# Altium integrated library Discrete Semiconductors.IntLib: 47 symbols
Pins are listed as number, name and electrical type; pins without a type are passive.

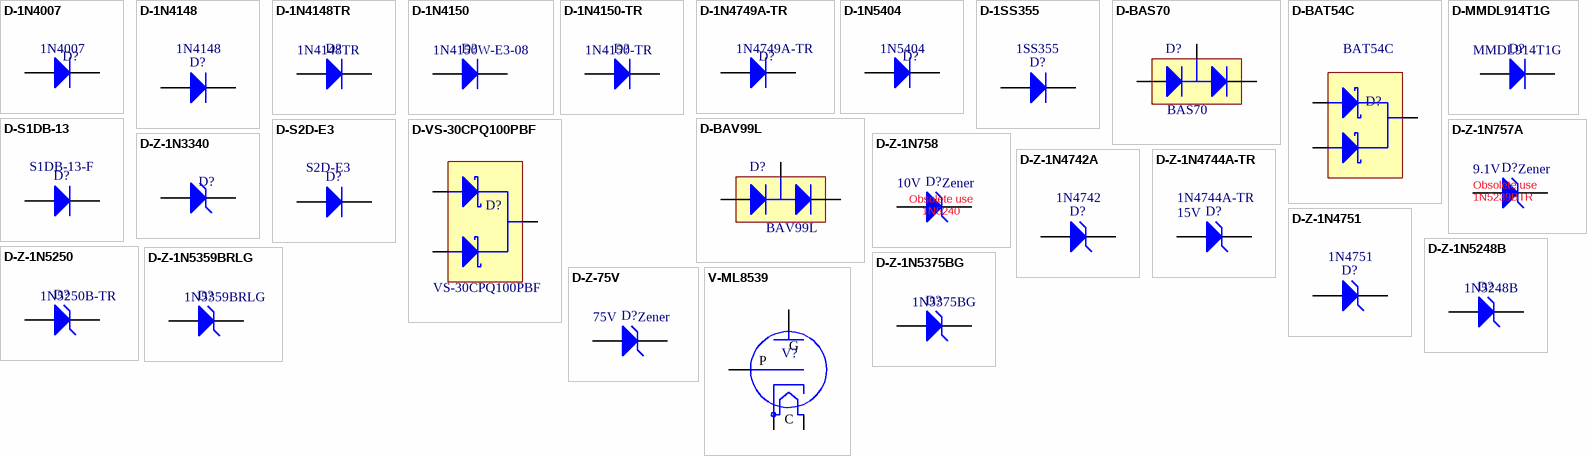
[diagram p0: symbols D-1N4007 to V-ML8539]

## D-1N4007
designator D?, comment 1N4007
Diode, Rectifier, General Purpose, 1000V, 3A, DO-201/DO-27; Manufacturer: Various; Forward Voltage: 0.8V @ 1A; Forward Current: 1.0A; Reverse Current: 10uA at 25C; PackageDescription: 5.2 x 2.7 mm, thru-hole; Reverse DC Voltage: 1000V; Package Reference: DO-41, DO-204AL; Supplier 1: Digi-Key; Supplier Part Number 1: 1N4007DICT-ND; Supplier 2: Mouser; Supplier Part Number 2: 512-1N4007; Supplier 3: Newark; Supplier Part Number 3: 05R5988; Supplier 4: Digi-Key; Supplier Part Number 4: 1N4007FSCT-ND; ComponentLink1Description: Datasheet; ComponentLink1URL: \\canopus\EDA\Datasheets\Discrete Semiconductors; Type: Rectifier; Part Number: 1N4007
footprint DO-41 (Diode, Axial; Body 5.2 x 2.7 mm (LxDia. max), Lead Dia. 0.86 mm (max))
3D model DO-41 (PCB3D Model)
simulation model D1N4007 (Model Generated by MODPEX)
pins: A, K

## D-1N4148
designator D?, comment Part Number: 1N4148  (hidden comment: 1N4148, 75V switching diode)
Switching Diode, 75V, 0.15A, SOD-123 package; Manufacturer: Various; Reverse Current Leakage: 5uA@75V; Forward Voltage: 1V @ 150mA; PackageDescription: Small Outline Diode (3.68 × 1.17 × 1.60 mm); Reverse DC Voltage: 75V; Supplier 1: Mouser; Supplier 2: Digi-Key; Supplier Part Number 1: 78-1N4148W-E3-18; Supplier Part Number 2: 1N4148WTPMSCT-ND; Package Reference: SOD-123; ComponentLink1Description: Datasheet; ComponentLink1URL: \\canopus\EDA\Datasheets\Discrete Semiconductors; Type: Switching
footprint SOD123 (Small Outline Diode (3.68 × 1.17 × 1.60 mm)); pin to pad 1>A 2>K
simulation model 1N4148 (DIODE)
3D model SOD-323 (PCB3D Model)
pins: 1 A, 2 K

## D-1N4148TR
designator D?, comment Part Number: 1N4148TR  (hidden comment: 1N4148, 75V switching diode)
Diode, Switching 100V, 0.2A, DO-35 package; Manufacturer: Various; Reverse Current Leakage: 5uA@75V; Forward Voltage: 1V @ 10mA; PackageDescription: Small Outline Diode (4.10 × 1.91mm); Reverse DC Voltage: 100V; Supplier 1: Newark; Supplier Part Number 1: 44K0365; Supplier 2: Mouser; Supplier Part Number 2: 512-1N4148TR; Supplier 3: Digi-Key; Supplier Part Number 3: 1N4148DICT-ND; Package Reference: DO-35; ComponentLink1Description: Datasheet; ComponentLink1URL: \\canopus\EDA\Datasheets\Discrete Semiconductors; Type: Switching
footprint DO-35 (Diode, DO-35, Thru-Hole; 2 Leads; 0.4 in Pin Spacing); pin to pad 1>A 2>K
3D model DO-35 (PCB3D Model)
simulation model 1N4148 (Model Description)
pins: 1 A, 2 K

## D-1N4150
designator D?, comment 1N4150W-E3-08
Diode, Switching, 50V 0.2A, SOD-123 package; Manufacturer: Various; Reverse Current Leakage: 100nA @ 50V; Forward Voltage: 1V @ 200mA; PackageDescription: Small Outline Diode (3.68 × 1.17 × 1.60 mm); Supplier 1: Mouser; Supplier 2: Digi-Key; Supplier 3: Newark; Supplier Part Number 1: 78-1N4150W-E3-08; Supplier Part Number 2: 1N4150W-E3-08CT-ND; Supplier Part Number 3: 51T5044; Reverse DC Voltage: 50V; Package Reference: SOD-123; ComponentLink1Description: Datasheet; ComponentLink1URL: \\canopus\EDA\Datasheets\Discrete Semiconductors; Type: Switching; Part Number: 1N4150W-E3-08
footprint SOD123 (Small Outline Diode (3.68 × 1.17 × 1.60 mm)); pin to pad 1>A 2>K
simulation model 1N4150 (DIODE)
3D model SOD-123 (PCB3D Model)
pins: 1 A, 2 K

## D-1N4150-TR
designator D?, comment 1N4150-TR
Diode, Switching, 50V 0.2A, SOD-123 package; Manufacturer: Various; Reverse Current Leakage: 100nA @ 50V; Forward Current: 200mA (surge 500mA); Forward Voltage: 1V @ 200mA; PackageDescription: Small Outline Diode (3.68 × 1.17 × 1.60 mm); Reverse DC Voltage: 50V; Supplier 1: Newark; Supplier Part Number 1: 48F4703; Supplier 2: Mouser; Supplier Part Number 2: 78-1N4150; Package Reference: DO-35; ComponentLink1Description: Datasheet; ComponentLink1URL: \\canopus\EDA\Datasheets\Discrete Semiconductors; Type: Switching; Part Number: 1N4150-TR
simulation model 1N4150 (DIODE)
footprint DO-35 (Diode, DO-35, Thru-Hole; 2 Leads; 0.4 in Pin Spacing); pin to pad 1>A 2>K
3D model DO-35 (PCB3D Model)
pins: 1 A, 2 K

## D-1N4749A-TR
designator D?, comment 1N4749A-TR
Zener Diode, 24V, 1.3W, DO-41; Manufacturer: Fairchild Semiconductor; Forward Current: 1.0A; Reverse Current: 5uA @ 18.2V; PackageDescription: DO-204AL, DO-41, Axial; Package Reference: DO-41; Supplier 1: Digi-Key; Supplier Part Number 1: 1N4749AFSCT-ND; Supplier 2: Mouser; Supplier Part Number 2: 512-1N4749ATR; Supplier 3: Newark; Supplier Part Number 3: 33C2799; Value: 24V; ComponentLink1Description: Datasheet; ComponentLink1URL: \\canopus\EDA\Datasheets\Discrete Semiconductors; Type: Zener; Part Number: 1N4749A-TR
footprint DO-41 (Diode, Axial; Body 5.2 x 2.7 mm (LxDia. max), Lead Dia. 0.86 mm (max))
3D model DO-41 (PCB3D Model)
simulation model SIMetrix_DI_1N4749A (SYM=HZEN)
pins: A, K

## D-1N5404
designator D?, comment 1N5404
Diode, Rectifier, General Purpose, 400V, 3A, DO-201/DO-27; Manufacturer: Various; Forward Voltage: 1.0V @ 3A; Forward Current: 3.0A; Reverse Current: 5.0uA; PackageDescription: 9.5 x 5.3 mm, plastic, thru-hole; Reverse DC Voltage: 400V; Supplier 1: Newark; Supplier Part Number 1: 78K2520; Supplier 2: Digi-Key; Supplier 3: Mouser; Supplier Part Number 3: 621-1N5404; Package Reference: DO-27, DO-201AD; Supplier Part Number 2: 1N5404-TPCT-ND; ComponentLink1Description: Datasheet; ComponentLink1URL: \\canopus\EDA\Datasheets\Discrete Semiconductors; Type: Rectifier; Part Number: 1N5404
footprint DO-27 (Diode, DO-27, Thru-Hole; 2 Leads; 0.73 in Pin Spacing); pin to pad 1>A 2>K
simulation model DI_1N5404 (SRC=1N5404;DI_1N5404;Diodes;Si;  400V  3.00A  3.00us   Diodes Inc. Standard Rectifier)
3D model DO-27 (PCB3D Model)
pins: 1 A, 2 K

## D-1SS355
designator D?, comment 1SS355
Small Signal Diode, 80V, 0.1A; Manufacturer: ROHM Semiconductor; Reverse Current Leakage: 100nA @ 80V; Forward Voltage: 1.2V; PackageDescription: Small Outline Diode (1.7 × 1.25 × 0.95 mm); Supplier 1: Digi-Key; Supplier Part Number 1: 1SS355TE-17CT-ND; Supplier 2: Mouser; Supplier Part Number 2: 755-1SS355TE-17; Supplier 3: Newark; Supplier Part Number 3: 74M5722; Reverse DC Voltage: 80V; Package Reference: SOD-323; ComponentLink1Description: Datasheet; ComponentLink1URL: \\canopus\EDA\Datasheets\Discrete Semiconductors; Type: Small Signal; Part Number: 1SS355
footprint SOD323 (Small Outline Diode (1.7 × 1.25 × 0.95 mm)); pin to pad 1>A 2>K
3D model SOD-323 (PCB3D Model)
simulation model D1SS355 (D1SS355 D model)
pins: 1 A, 2 K

## D-BAS70
designator D?, comment Part Number: BAS70  (hidden comment: BAS70-04LT1G)
Diode Array, 70V, 215mA, SOT23 package; Manufacturer: On Semiconductor; Forward Voltage: 1.0V; Reverse Current Leakage: 10uA @ 70V; PackageDescription: 3-Pin SOT-23 Package 0.95 mm Pitch, 2.5 mm Lead Span; Reverse DC Voltage: 70V; ComponentLink1Description: Datasheet; ComponentLink1URL: \\canopus\EDA\Datasheets\Discrete Semiconductors\BAS70.pdf; Package Reference: SOT-23; Forward Current: -; Impedance: -; Reverse Current: -; Type: Array; Value: -; Supplier 1: Digi-Key; Supplier Part Number 1: BAS70-04LT1GOSCT-ND; Supplier 2: Mouser; Supplier Part Number 2: 863-SBAS70-04LT1G; Supplier 3: Newark; Supplier Part Number 3: 45J0556
footprint SOT23-DUODIODE (Dual Diode in  SOT23 package.); pin to pad 1>A 2>C 3>AC
3D model SOT23-3 (PCB3D Model)
simulation model DBAS70-04LT1G (Model Generated by MODPEX)
pins: 1 A, 2 C, 3 A/C

## D-BAT54C
designator D?, comment BAT54C
Dual Schottky Diode, 30V 200mA, 1 pair common cathode; Manufacturer: Fairchild Semiconductor; Reverse Current Leakage: 2uA @ 25V; Reverse DC Voltage: 30V (Max); Type: Small Signal; Forward Voltage: 800mV @ 100mA; PackageDescription: 3-Pin SOT-23 Package 0.95 mm Pitch, 2.5 mm Lead Span; Supplier 1: Mouser; Supplier Part Number 1: 621-BAT54C-F; Supplier 2: Digi-Key; Supplier Part Number 2: BAT54C-FDICT-ND; Supplier 3: Newark; Supplier Part Number 3: 65W8464; Package Reference: SOT-23; ComponentLink1Description: Datasheet; ComponentLink1URL: \\canopus\EDA\Datasheets\Discrete Semiconductors\BAT54C.pdf; Part Number: BAT54C
3D model SOT23-3 (PCB3D Model)
footprint SOT23 (SOT23, 3-Leads, Body 2.9x1.3mm, Pitch 0.95mm, Lead Span 2.3mm - Reverse Pinning, IPC Low Density); pin to pad 1>3 3>1
simulation model BAT54CQ (Model Description)
pins: 1, 2, 3

## D-BAV99L
designator D?, comment Part Number: BAV99L  (hidden comment: BAV99L, Diode array, 70V)
Diode Array, 70V, 215mA, SOT23 package; Manufacturer: ON Semiconductor; Reverse DC Voltage: 100V; Forward Voltage: 1.25V; Reverse Current Leakage: 50uA @ 70V DC; PackageDescription: 3-Pin SOT-23 Package 0.95 mm Pitch, 2.5 mm Lead Span; Package Reference: SOT-23; ComponentLink1Description: Datasheet; ComponentLink1URL: \\canopus\EDA\Datasheets\Discrete Semiconductors\BAV99L.PDF; Forward Current: -; Impedance: -; Reverse Current: -; Type: Array; Value: -; Supplier 1: Digi-Key; Supplier Part Number 1: BAV99LT1GOSCT-ND; Supplier 2: Newark; Supplier Part Number 2: 48K7496; Supplier 3: Allied; Supplier Part Number 3: 70299875
footprint SOT23-DUODIODE (Dual Diode in  SOT23 package.); pin to pad 1>A 2>C 3>AC
3D model SOT23-3 (PCB3D Model)
simulation model BAV99LT1 (Model Description)
pins: 1 A, 2 C, 3 A/C

## D-MMDL914T1G
designator D?  Part Number: MMDL914T1G  (hidden comment: D-MMDL914T1G)
Switching Diode, 100V, 0.2A, SOD-323; Manufacturer: ON Semiconductor; Reverse Current Leakage: 5uA @ 75V; Forward Voltage: 1V; PackageDescription: Small Outline Diode SOD323 package (1.7 × 1.25 × 0.95 mm); Reverse DC Voltage: 100V; Supplier 1: Mouser; Supplier 2: Digi-Key; Supplier Part Number 1: 863-MMDL914T1G; Supplier Part Number 2: MMDL914T1GOSCT-ND; Package Reference: SOD-323; ComponentLink1Description: Datasheet; ComponentLink1URL: \\canopus\EDA\Datasheets\Discrete Semiconductors; Type: Switching
footprint SOD323 (Small Outline Diode (1.7 × 1.25 × 0.95 mm)); pin to pad 1>A 2>K
3D model SOD-323 (PCB3D Model)
simulation model MMDL914T1 (MMDL914T1G)
pins: 1 A, 2 K

## D-S1DB-13
designator D?, comment Part Number: S1DB-13-F  (hidden comment: S1DB-13-F, 200V Rectifier)
Diode Rectifier, 200V, Standard recovery, 1A; Manufacturer: Diodes Inc; Reverse Current Leakage: 5uA @ 200V; Forward Voltage: 1.1V @1A; PackageDescription: Surface Mount Diode (SMB/DO-214AA, 5.30 × 3.60 × 2.25 mm); Supplier 1: Mouser; Supplier 2: Arrow; Supplier 3: Digi-Key; Supplier Part Number 1: 621-RS1DB-13-F; Supplier Part Number 2: S1DB-13-F; Supplier Part Number 3: S1DB-FDICT-ND; Reverse DC Voltage: 200V; Package Reference: SMB; ComponentLink1Description: Datasheet; ComponentLink1URL: \\canopus\EDA\Datasheets\Discrete Semiconductors; Type: Rectifier
footprint DIODE-SMB (Surface Mount Diode (DO-214AA, 5.30 × 3.60 × 2.25 mm)); pin to pad 1>A 2>K
3D model SMB (PCB3D Model)
simulation model S1D (S1D Rectifier Diode Simulation)
pins: 1 A, 2 K

## D-S2D-E3
designator D?, comment Part Number: S2D-E3  (hidden comment: S2D-E3/52T, 200V, 1.5A, General Purpose Diode)
Diode, General Purpose, 200V, 1.5A; Manufacturer: Vishay Semiconductor; Reverse Current Leakage: 1uA@200V; Forward Voltage: 1.15V@1.5A; PackageDescription: Surface Mount Diode (DO-214AA, 5.30 × 3.60 × 2.25 mm); Supplier 1: Digi-Key; Supplier 2: Mouser; Supplier 3: Newark; Supplier Part Number 1: RS2D-E3/52TGITR-ND; Supplier Part Number 2: 625-RS2D-E3; Supplier Part Number 3: 77K8251; Reverse DC Voltage: 200V; Package Reference: SMB; ComponentLink1Description: Datasheet; ComponentLink1URL: \\canopus\EDA\Datasheets\Discrete Semiconductors; Type: General Purpose
footprint DIODE-SMB (Surface Mount Diode (DO-214AA, 5.30 × 3.60 × 2.25 mm)); pin to pad 1>A 2>K
simulation model S2G (DIODE)
3D model SMB (PCB3D Model)
pins: 1 A, 2 K

## D-VS-30CPQ100PBF
designator D?, comment VS-30CPQ100PBF
Dual Schottky Diode, 100V 30A, 1 pair common cathode; Manufacturer: Vishay Semiconductor; Reverse Current Leakage: 550uA @ 100V; Reverse DC Voltage: 100V (Max); Forward Voltage: 800mV @ 100mA; PackageDescription: 3-Pin SOT-23 Package 0.95 mm Pitch, 2.5 mm Lead Span; Type: Schottky; Package Reference: TO-247-3; Supplier 1: Mouser; Supplier Part Number 1: 844-30CPQ100PBF; Supplier 2: Digi-Key; Supplier Part Number 2: 30CPQ100PBF-ND; Supplier 3: Newark; Supplier Part Number 3: 19K8513; ComponentLink1Description: Datasheet; ComponentLink1URL: \\canopus\EDA\Datasheets\Discrete Semiconductors\VS-30CPQ Series.pdf; Part Number: VS-30CPQ100PBF
footprint TO-247-3 (TO-247 3-Leads, Body 16.3x5.3mm, Pitch 5.45mm); pin to pad 1>3 2>1
3D model TO-247AC (PCB3D Model)
pins: 1, 2, 3

## D-Z-1N757A
designator D?, comment value 9.1V  (hidden comment: 1N5239B, Through hole Zener diode, 9.1V, DO-35 package)
Zener Diode, 9.1V, Through hole, DO-35 package; Manufacturer: Various; Part Number: D-Z-1N757A; Impedance: 10.0; Forward Voltage: 1.2V; PackageDescription: DO-35, Through Hole Diode, 0.4' lead spacing; Supplier 1: Newark; Supplier Part Number 1: 18M3545; Supplier 2: Digi-Key; Supplier Part Number 2: 1N757AMS-ND; ComponentLink1Description: Datasheet; ComponentLink1URL: \\canopus\EDA\Datasheets\Discrete Semiconductors; Type: Zener; Package Reference: DO-35
footprint DO-35 (Diode, DO-35, Thru-Hole; 2 Leads; 0.4 in Pin Spacing); pin to pad 1>A 2>K
simulation model D1N957A (Zener Diode - 1N757A)
3D model DO-35 (PCB3D Model)
pins: 1 A, 2 K
text: Obsolete use 1N5239BTR

## D-Z-1N758
designator D?, comment value 10V  (hidden comment: 1N758B)
Zener Diode, 10V, Through hole, DO-35; Manufacturer: Various; Impedance: 17.0; Forward Voltage: 1.2V; PackageDescription: DO-35, Through Hole Diode, 0.4' lead spacing; Supplier 1: Newark; Supplier Part Number 1: 33C7886; Supplier 2: Digi-Key; Supplier Part Number 2: 1N758A CT-ND; Supplier 3: Mouser; Supplier Part Number 3: 610-1N758A; Part Number: 1N758B; ComponentLink1Description: Datasheet; ComponentLink1URL: \\canopus\EDA\Datasheets\Discrete Semiconductors; Type: Zener; Package Reference: DO-35
footprint DO-35 (Diode, DO-35, Thru-Hole; 2 Leads; 0.4 in Pin Spacing); pin to pad 1>A 2>K
simulation model D1N958A (Zener Diode - 1N758)
3D model DO-35 (PCB3D Model)
pins: 1 A, 2 K
text: Obsolete use 1N5240

## D-Z-1N3340
designator D?, comment Power Zener 100V 50W  (value not drawn)
Zener Diode, 100V, 50W, D0-5; Part Number: 1N3340B; Impedance: 200 ohm; Supplier 1: Allied; Supplier Part Number 1: 70314366; ComponentLink1Description: Datasheet; ComponentLink1URL: \\canopus\EDA\Datasheets\Discrete Semiconductors; Package Reference: DO-5, DO-203AB; Type: Zener; Value: 100V
footprint DO-5 (DO-5 Stud mount package size)
pins: 1 A, 2 K

## D-Z-1N4742A
designator D?, comment Part Number: 1N4742  (hidden comment: 1N4742A, Zener Diode, 12V)
Zener Diode, 12V, Through hole, DO-41 package; Manufacturer: Fairchild Semiconductor; Impedance: 270; Forward Voltage: 0.95V; PackageDescription: Diode, Axial; Body 5.2 x 2.7 mm (LxDia. max), Lead Dia. 0.86 mm (max); Value: 12V; Supplier 1: Allied; Supplier Part Number 1: 70061616; Supplier 2: Mouser; Supplier Part Number 2: 78-1N4742A-TAP; Supplier 3: Newark; Supplier Part Number 3: 95B4978; Supplier 4: Digi-Key; Supplier Part Number 4: 1N4742AFSCT-ND; ComponentLink1Description: Datasheet; ComponentLink1URL: \\canopus\EDA\Datasheets\Discrete Semiconductors; Type: Zener; Package Reference: DO-41
footprint DO-41 (Diode, Axial; Body 5.2 x 2.7 mm (LxDia. max), Lead Dia. 0.86 mm (max)); pin to pad 1>A 2>K
3D model DO-35 (PCB3D Model)
simulation model SIMetrix_DI_1N4742A (1N4742A spice simulation)
pins: 1 A, 2 K

## D-Z-1N4744A-TR
designator D?, comment value 15V  Part Number: 1N4744A-TR  (hidden comment: 1N4744A, Zener Diode, 15V)
Zener Diode, 15V, Through hole, DO-41 package; Manufacturer: Vishay; Package Reference: DO-41, DO-204AL; Supplier 1: Mouser; Supplier Part Number 1: 78-1N4744A; Supplier 2: Newark; Supplier Part Number 2: 33C2792; Supplier 3: Digi-Key; Supplier Part Number 3: 1N4744AVSCT-ND; ComponentLink1Description: Datasheet; ComponentLink1URL: \\canopus\EDA\Datasheets\Discrete Semiconductors; Type: Zener
footprint DO-41 (Diode, Axial; Body 5.2 x 2.7 mm (LxDia. max), Lead Dia. 0.86 mm (max)); pin to pad 1>A 2>K
3D model DO-35 (PCB3D Model)
simulation model SIMetrix_DI_1N4744A (1N4744A spice simulation)
pins: 1 A, 2 K

## D-Z-1N4751
designator D?, comment Part Number: 1N4751  (hidden comment: 1N4751, Zener Diode, 30V)
Zener Diode, 30V, Through hole, DO-41 package; Manufacturer: Fairchild Semiconductor; Impedance: 270; Value: 75V; Forward Voltage: 0.95V; PackageDescription: Diode, Axial; Body 5.2 x 2.7 mm (LxDia. max), Lead Dia. 0.86 mm (max); Supplier 1: Newark; Supplier Part Number 1: 18C8967; Supplier 2: Mouser; Supplier Part Number 2: 512-1N4751A; Supplier 3: Digi-Key; Supplier Part Number 3: 1N4751AFS-ND; ComponentLink1Description: Datasheet; ComponentLink1URL: \\canopus\EDA\Datasheets\Discrete Semiconductors; Type: Zener; Package Reference: DO-41
simulation model 1N4751 (Zener Diode - 1N4751)
footprint DO-41 (Diode, Axial; Body 5.2 x 2.7 mm (LxDia. max), Lead Dia. 0.86 mm (max)); pin to pad 1>A 2>K
3D model DO-41 (PCB3D Model)
pins: 1 A, 2 K

## D-Z-1N5248B
designator D?, comment Part Number: 1N5248B  (hidden comment: 1N5248B, Through hole Zener diode, 18V, DO-35 package)
Zener Diode, 18V, Through hole, DO-35 package; Manufacturer: Fairchild Semiconductor; Impedance: 21.0; Forward Voltage: 1.2V; PackageDescription: DO-35, Through Hole Diode, 0.4' lead spacing; Supplier 1: Mouser; Supplier 2: Digi-Key; Supplier Part Number 1: 512-1N5248B; Supplier Part Number 2: 1N5248BFSCT-ND; Value: 18V; ComponentLink1Description: Datasheet; ComponentLink1URL: \\canopus\EDA\Datasheets\Discrete Semiconductors; Type: Zener; Package Reference: DO-35
footprint DO-35 (Diode, DO-35, Thru-Hole; 2 Leads; 0.4 in Pin Spacing); pin to pad 1>A 2>K
simulation model F1N5248B (Zener Diode - 1N5248B Model)
3D model DO-35 (PCB3D Model)
pins: 1 A, 2 K

## D-Z-1N5250
designator D?, comment 1N5250B-TR
Zener Diode, 20V, Through Hole, DO-35 package; Manufacturer: Various; Impedance: 25.0; Forward Voltage: 1.1V; PackageDescription: DO-35, Through Hole Diode, 0.4' lead spacing; Supplier 1: Newark; Supplier Part Number 1: 66W0952; Supplier 2: Digi-Key; Supplier Part Number 2: 1N5250BVSCT-ND; Supplier 3: Mouser; Supplier Part Number 3: 621-1N5250B-T; Value: 20V; ComponentLink1Description: Datasheet; ComponentLink1URL: \\canopus\EDA\Datasheets\Discrete Semiconductors; Type: Zener; Package Reference: DO-35; Part Number: 1N5250B-TR
footprint DO-35 (Diode, DO-35, Thru-Hole; 2 Leads; 0.4 in Pin Spacing); pin to pad 1>A 2>K
simulation model 1N5250 (Diode)
3D model DO-35 (PCB3D Model)
pins: 1 A, 2 K

## D-Z-1N5359BRLG
designator D?, comment 1N5359BRLG
Zener Diode, 24V, Through hole, T-18 package; Manufacturer: ON Semiconductor; Impedance: 3.5 ohms; Forward Voltage: 1.2V @ 1A; PackageDescription: T-18, Axial; Value: 24V; Supplier 1: TME; Supplier Part Number 1: 1N5359BRLG; Supplier 2: Digi-Key; Supplier Part Number 2: 1N5359BGOS-ND; Supplier 3: Newark; Supplier Part Number 3: 42K2893; ComponentLink1Description: Datasheet; ComponentLink1URL: \\canopus\EDA\Datasheets\Discrete Semiconductors; Type: Zener; Package Reference: T-18; Part Number: 1N5359BRLG
footprint T-18 (Diode, Axial; Body 5.2 x 2.7 mm (LxDia. max), Lead Dia. 0.86 mm (max))
pins: 1 A, 2 K

## D-Z-1N5375BG
designator D?, comment Part Number: 1N5375BG  (hidden comment: 1N5375BG, Through hole Zener diode, 82V, DO-35 package)
Zener Diode, 18V, Through hole, T-18 package; Manufacturer: ON Semiconductor; Impedance: 65 ohm; Forward Voltage: 1.2V @ 1A; PackageDescription: T-18, Axial; Value: 82V; ComponentLink1Description: Datasheet; ComponentLink1URL: \\canopus\EDA\Datasheets\Discrete Semiconductors; Type: Zener; Package Reference: T-18
footprint T-18 (Diode, Axial; Body 5.2 x 2.7 mm (LxDia. max), Lead Dia. 0.86 mm (max))
pins: 1 A, 2 K

## D-Z-75V
designator D?, comment value 75V  (hidden comment: MMSZ5267BT1G)
Zener Diode, 75V, Surface Mount, SOD-123 package; Manufacturer: On Semiconductor; Impedance: 270; Forward Voltage: 0.95V; PackageDescription: SOD-123 Small outline diode; Supplier 1: Mouser; Supplier 2: Digi-Key; Supplier Part Number 1: 863-MMSZ5267BT1G; Supplier Part Number 2: MMSZ5267BT1GOSCT-ND; Part Number: MMSZ5267BT1G; Package Reference: SOD-123; ComponentLink1Description: Datasheet; ComponentLink1URL: \\canopus\EDA\Datasheets\Discrete Semiconductors; Type: Zener
footprint SOD123 (Small Outline Diode (3.68 × 1.17 × 1.60 mm)); pin to pad 1>A 2>K
simulation model MMSZ5267 (Zener Diode MMSZ5267BT1G)
3D model SOD-123 (PCB3D Model)
pins: 1 A, 2 K

## V-ML8539
designator V?, comment Planar Triode, 8kV  (value not drawn)
ComponentLink1Description: Datasheet; ComponentLink1URL: \\canopus\EDA\Datasheets\Discrete Semiconductors; Type: Triode
pins: 1 G, 2 P, 3 C, 3 C


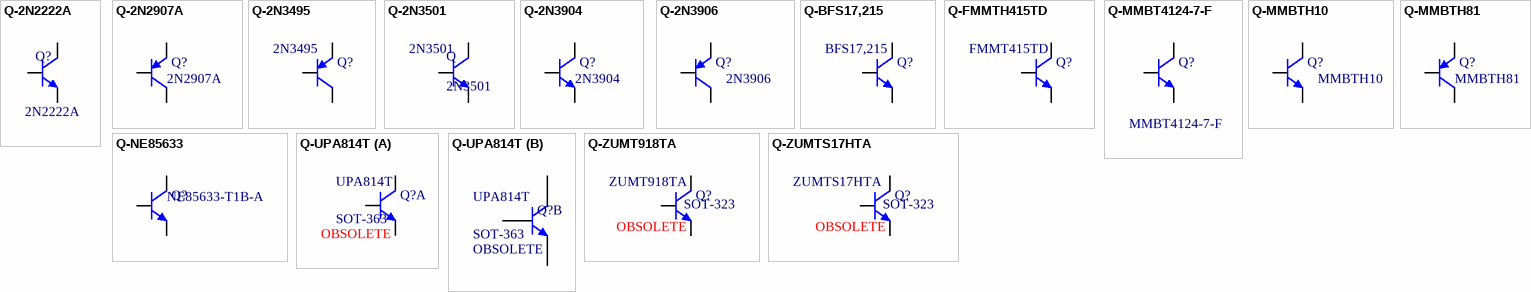
[diagram p1: symbols Q-2N2222A to Q-ZUMTS17HTA]

## Q-2N2222A
designator Q?, comment 2N2222A
NPN Transistor, 40V, TO-18 package; DC Gain: 100-300 @ 150mA, 10V; Power (Max): 500mW/1.2W; Frequency Transition: 300MHz; PackageDescription: *; Package Reference: TO-18; Type: NPN; VCE Breakdown (Max): *; Supplier 1: Newark; Supplier Part Number 1: 10M4197; Supplier 2: Mouser; Supplier Part Number 2: 610-2N2222A; Supplier 3: TME; Supplier Part Number 3: 2N2222A; Part Number: 2N2222A
footprint TO-18-2N2222A (Metal Can Package, tab indicates emitter)
3D model TO-18 (PCB3D Model)
simulation model Q2N2222A (2N2222 simulation)
pins: 1 E, 2 B, 3 C

## Q-2N2907A
designator Q?, comment Part Number: 2N2907A  (hidden comment: 2N2907A, TO92 package, general purpose)
PNP Bipolar Transistor, General Purpose, 40V, TO92 package; Power (Max): 400mW; Frequency Transition: 200MHz typ; Collector Current (Max): -600mA; DC Gain: 50; Type: PNP; Supplier 1: Allied; Supplier Part Number 1: 70348164; Supplier 2: Mouser; Supplier Part Number 2: 610-2N2907A; Supplier 3: Digi-Key; Supplier Part Number 3: 2N2907ACS-ND; Package Reference: TO-18
footprint TO-18-generic (Metal Can Package, tab indicates emitter)
3D model TO-18 (PCB3D Model)
simulation model Q2N2907A (2N2907 simulation)
pins: 1 C, 2 B, 3 E

## Q-2N3495
designator Q?, comment 2N3495
PNP Silicon Transistor, General Purpose, 120V, TO39package; Manufacturer: Central Semiconductor Corp.; Power (Max): 3W; Frequency Transition: 150MHz typ; Collector Current (Max): 100mA; Type: PNP; Package Reference: TO-39; Part Number: 2N3495
footprint TO-39-generic (Metal Can Package, tab indicates emitter)
3D model TO-39 (PCB3D Model)
pins: 1 C, 2 B, 3 E

## Q-2N3501
designator Q, comment 2N3501
NPN Transistor, 150V, 0.3A, TO-39 package; DC Gain: 100 @ 150mA, 10V; Power (Max): 1W; Frequency Transition: 150MHz; PackageDescription: TO-39-3/TO-205AD; Package Reference: TO-39; Type: NPN; VCE Breakdown (Max): 150V; Supplier 1: Newark; Supplier Part Number 1: 35C0704; Supplier 2: Mouser; Supplier Part Number 2: 610-2N3501; Supplier 3: Digi-Key; Supplier Part Number 3: 2N3501CS-ND; Part Number: 2N3501
footprint TO-39-generic (Metal Can Package, tab indicates emitter)
simulation model 2N3501 (Spice Model)
3D model TO-39 (PCB3D Model)
pins: 1 E, 2 B, 3 C

## Q-2N3904
designator Q?, comment Part Number: 2N3904  (hidden comment: 2N3904, TO92 package, general purpose)
NPN Bipolar Transistor, General Purpose, 40V, TO92 package; Power (Max): 600mW; Frequency Transition: 250MHz; Collector Current (Max): 200mA; DC Gain: 100 @ 10mA, 1V; PackageDescription: TO, Flat Index; 3 In-Line, Axial Leads; Body Dia. 4.5mm; Leads 0.51 x 0.48 mm (max); Type: NPN; VCE Breakdown (Max): 40V; Package Reference: TO92; Supplier 1: Newark; Supplier Part Number 1: 45J2492; Supplier 2: Mouser; Supplier Part Number 2: 512-2N3904BU; Supplier 3: Digi-Key; Supplier Part Number 3: 2N3904FS-ND
3D model TO92 (PCB3D Model)
footprint TO-92A (TO, Flat Index; 3 In-Line, Axial Leads; Body Dia. 4.5mm; Leads 0.51 x 0.48 mm (max))
simulation model 2N3904 (Spice Model)
pins: 1 E, 2 B, 3 C

## Q-2N3906
designator Q?, comment Part Number: 2N3906  (hidden comment: 2N3906, TO92 package, general purpose)
PNP Bipolar Transistor, General Purpose, 40V, TO92 package; Power (Max): 600mW; Frequency Transition: 250MHz; Collector Current (Max): 200mA; DC Gain: 100 @ 10mA, 1V; PackageDescription: TO, Flat Index; 3 In-Line, Axial Leads; Body Dia. 4.5mm; Leads 0.51 x 0.48 mm (max); Type: PNP; VCE Breakdown (Max): 40V; Supplier 1: Mouser; Supplier 2: Digi-Key; Supplier Part Number 1: 833-2N3906-AP; Supplier Part Number 2: 2N3906-APCT-ND; Package Reference: TO92
simulation model 2N3906 (PNP)
3D model TO92 (PCB3D Model)
footprint TO-92A (TO, Flat Index; 3 In-Line, Axial Leads; Body Dia. 4.5mm; Leads 0.51 x 0.48 mm (max)); pin to pad 1>3 3>1
pins: 1 C, 2 B, 3 E

## Q-BFS17,215
designator Q?, comment Part Number: BFS17,215  (hidden comment: BFS17,215, NPN RF Transistor)
NPN RF Transistor, SOT-23 package, 15V, 1GHz frequency transition; Noise Figure: 4.35dB @ 500MHz; Power (Max): 300mW; Collector Current (Max): 25mA; DC Gain: 25 @ 2mA, 1V; PackageDescription: SOT23, 3-Leads, Body 2.9x1.3mm, Pitch 0.95mm, Lead Span 2.3mm - Reverse Pinning, IPC Low Density; Type: NPN RF Transistor; Frequency Transition: 1GHz; VCE Breakdown (Max): 15V; Supplier 1: Mouser; Supplier 2: Arrow; Supplier 3: Digi-Key; Supplier Part Number 1: 771-BFS17-T/R; Supplier Part Number 2: BFS17,215; Supplier Part Number 3: 568-1652-6-ND; Package Reference: SOT-23
footprint SOT23 (SOT23, 3-Leads, Body 2.9x1.3mm, Pitch 0.95mm, Lead Span 2.3mm - Reverse Pinning, IPC Low Density); pin to pad 2>3 3>2
simulation model BFS17 (NPN)
3D model SOT23-3 (PCB3D Model)
pins: 1 C, 2 B, 3 E

## Q-FMMTH415TD
designator Q?, comment Part Number: FMMT415TD  (hidden comment: FMMT415TD, NPN, Avalanche mode, 100V)
NPN Bipolar Transistor, Avalanche mode, 100V; Type: NPN Avalanche; Power (Max): 330mW; Frequency Transition: 40MHz; Collector Current (Max): 500mA; DC Gain: 25 @ 10mA, 10V; PackageDescription: SOT23, 3-Leads, Body 2.9x1.3mm, Pitch 0.95mm, Lead Span 2.3mm - Reverse Pinning, IPC Low Density; Supplier 1: Mouser; Supplier 2: Digi-Key; Supplier Part Number 1: 522-FMMT415TD; Supplier Part Number 2: FMMT415TDCT-ND; VCE Breakdown (Max): 100V; Package Reference: SOT-23
footprint SOT23 (SOT23, 3-Leads, Body 2.9x1.3mm, Pitch 0.95mm, Lead Span 2.3mm - Reverse Pinning, IPC Low Density); pin to pad 2>3 3>2
3D model SOT23-3 (PCB3D Model)
simulation model FMMT415 (DIODES_INC_SPICE_MODEL)
pins: 1 C, 2 B, 3 E

## Q-MMBT4124-7-F
designator Q?, comment MMBT4124-7-F
NPN Bipolar Transistor, General Purpose, 40V, TO92 package; Power (Max): 600mW; Frequency Transition: 300MHz; VCE Breakdown (Max): 25V; Collector Current (Max): 200mA; DC Gain: 120 @ 2mA, 1V; PackageDescription: SOT23, 3-Leads, Body 2.9x1.3mm, Pitch 0.95mm, Lead Span 2.3mm - Reverse Pinning, IPC Low Density; Type: NPN; Package Reference: SOT23; Supplier 1: Mouser; Supplier Part Number 1: 621-MMBT4124-F; Supplier 2: Digi-Key; Supplier Part Number 2: MMBT4124-FDICT-ND; Part Number: MMBT4124-7-F
3D model SOT23-3 (PCB3D Model)
footprint SOT23 (SOT23, 3-Leads, Body 2.9x1.3mm, Pitch 0.95mm, Lead Span 2.3mm - Reverse Pinning, IPC Low Density)
pins: 1 E, 2 B, 3 C

## Q-MMBTH10
designator Q?, comment Part Number: MMBTH10  (hidden comment: MMBTH10, NPN RF Transistor,)
NPN RF Transistor, MMBTH10, 25V, 650MHz; Type: NPN RF; Power (Max): 225mW; Collector Current (Max): 50mA; DC Gain: 60 @ 4mA, 10V; PackageDescription: SOT23, 3-Leads, Body 2.9x1.3mm, Pitch 0.95mm, Lead Span 2.3mm - Reverse Pinning, IPC Low Density; Noise Figure: n/a; Frequency Transition: 650MHz; VCE Breakdown (Max): 25V; Supplier 1: Mouser; Supplier 2: Digi-Key; Supplier Part Number 1: 512-MMBTH10; Supplier Part Number 2: MMBTH10FSCT-ND; Package Reference: SOT-23
footprint SOT23 (SOT23, 3-Leads, Body 2.9x1.3mm, Pitch 0.95mm, Lead Span 2.3mm - Reverse Pinning, IPC Low Density); pin to pad 2>3 3>2
3D model SOT23-3 (PCB3D Model)
simulation model MMBTH10 (Product: MMBTH10)
pins: 1 C, 2 B, 3 E

## Q-MMBTH81
designator Q?, comment Part Number: MMBTH81  (hidden comment: MMBTH81, SOT-23 package, general purpose)
PNP Bipolar Transistor, General Purpose, 40V, TO92 package; Power (Max): 225mW; Frequency Transition: 600MHz; Collector Current (Max): 50mA; DC Gain: 60 @ 5mA, 10V; VCE Breakdown (Max): 20V; PackageDescription: TO, Flat Index; 3 In-Line, Axial Leads; Body Dia. 4.5mm; Leads 0.51 x 0.48 mm (max); Type: PNP; Supplier 1: Mouser; Supplier 2: Digi-Key; Supplier 3: Newark; Supplier Part Number 1: 512-MMBTH81; Supplier Part Number 2: MMBTH81CT-ND; Supplier Part Number 3: 58K9429; Package Reference: SOT-23
footprint SOT23 (SOT23, 3-Leads, Body 2.9x1.3mm, Pitch 0.95mm, Lead Span 2.3mm - Reverse Pinning, IPC Low Density); pin to pad 2>3 3>2
3D model SOT23-3 (PCB3D Model)
simulation model MMBTH81 (Power Discrete BJT Electrical Circuit Model)
pins: 1 C, 2 B, 3 E

## Q-NE85633
designator Q?, comment NE85633-T1B-A
NPN RF Transistor, 7GHz, SOT-23 package, 12V; Noise Figure: 1.4dB~2dB @ 1GHz; Power (Max): 200mW; Collector Current (Max): 100mA; DC Gain: 50 @ 20mA, 10V; PackageDescription: SOT23, 3-Leads, Body 2.9x1.3mm, Pitch 0.95mm, Lead Span 2.3mm - Reverse Pinning, IPC Low Density; Type: NPN RF Transistor; Frequency Transition: 7GHz; Supplier 1: Mouser; Supplier 2: Digi-Key; Supplier 3: Arrow; Supplier Part Number 1: 551-NE85633-T1B-A; Supplier Part Number 2: NE85633B-ACT-ND; Supplier Part Number 3: NE85633-T1B-A; VCE Breakdown (Max): 12V; Package Reference: SOT-23; Part Number: NE85633-T1B-A
footprint SOT23 (SOT23, 3-Leads, Body 2.9x1.3mm, Pitch 0.95mm, Lead Span 2.3mm - Reverse Pinning, IPC Low Density); pin to pad 2>3 3>2
3D model SOT23-3 (PCB3D Model)
simulation model NE85633/CEL (NE85633 RF Transistor Sim)
pins: 1 C, 2 B, 3 E

## Q-UPA814T
designator Q?, comment Package Reference: SOT-363  (hidden comment: UPA814T)
Dual NPN Bipolar Transistor, SOT363 package, Obsolete; Noise Figure: 1.5dB @ 2GHz; Power (Max): 200mW; Frequency Transition: 9GHz; VCE Breakdown (Max): 6V; Collector Current (Max): 100mA; DC Gain: 80 @ 3mA, 1V; PackageDescription: SOT363, S06/TSSOT-06 Package, 6-Leads, Body 2.00x2.10mm, Pitch 0.65mm, IPC Medium Density; Type: Dual NPN; Part Number: UPA814T
footprint SOT363 (SOT363, S06/TSSOT-06 Package, 6-Leads, Body 2.00x2.10mm, Pitch 0.65mm, IPC Medium Density)
3D model SOT-363 (PCB3D Model)
part A pins: 1 C, 5 E, 6 B
part B pins: 2 B, 3 C, 4 E
part A text: OBSOLETE
part B text: OBSOLETE

## Q-ZUMT918TA
designator Q?  Package Reference: SOT-323  Part Number: ZUMT918TA  (hidden comment: Q-ZUMT918TA)
ZUMT918TA, NPN RF Transistor, 15V, 600MHz; Noise Figure: 6dB @ 60 MHz; Power (Max): 330mW; Collector Current (Max): 100mA; DC Gain: 20 @ 3mA, 1V; PackageDescription: SOT323, 3-Leads, Body 2.00x2.10mm, Pitch 0.65mm, IPC Medium Density; Type: NPN RF Transistor; Frequency Transition: 600MHz; VCE Breakdown (Max): 15V
footprint SOT323 (SOT323, 3-Leads, Body 2.00x2.10mm, Pitch 0.65mm, IPC Medium Density); pin to pad 1>3 2>1 3>2
3D model SOT-323 (PCB3D Model)
pins: 1 C, 2 B, 3 E
text: OBSOLETE

## Q-ZUMTS17HTA
designator Q?  Package Reference: SOT-323  Part Number: ZUMTS17HTA  (hidden comment: Q-ZUMTS17HTA)
ZUMTS17HTA, NPN RF Transistor, 15V, 600MHz; Noise Figure: 4.5dB @ 500 MHz; Power (Max): 330mW; Frequency Transition: 1.3GHz; Collector Current (Max): 100mA; DC Gain: 70 @ 2mA, 1V; PackageDescription: SOT323, 3-Leads, Body 2.00x2.10mm, Pitch 0.65mm, IPC Medium Density; Type: NPN RF Transistor; VCE Breakdown (Max): 15V
footprint SOT323 (SOT323, 3-Leads, Body 2.00x2.10mm, Pitch 0.65mm, IPC Medium Density); pin to pad 1>3 2>1 3>2
3D model SOT-323 (PCB3D Model)
pins: 1 C, 2 B, 3 E
text: OBSOLETE


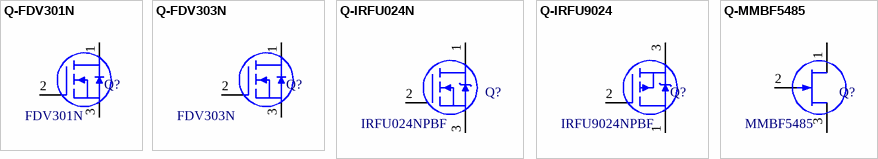
[diagram p2: symbols Q-FDV301N to Q-MMBF5485]

## Q-FDV301N
designator Q?, comment Part Number: FDV301N  (hidden comment: FDV301N, N Channel MOSFET)
N channel MOSFET,  55V, SOT-23-3; Manufacturer: Fairchild Semiconductor; Type: N-MOSFET; Current (continous drain): 220mA; Power (Max): 350mW; Rds On (Maximum): 4 ohm @ 400mA, 4.5V; Drain-Source Voltage: 25V; PackageDescription: SOT23, 3-Leads, Body 2.9x1.3mm, Pitch 0.95mm, Lead Span 2.3mm - Reverse Pinning, IPC Low Density; Supplier 1: Mouser; Supplier Part Number 1: 512-FDV301N; Supplier 2: Digi-Key; Supplier Part Number 2: FDV301NCT-ND; Supplier 3: TME; Supplier Part Number 3: FDV301N; ComponentLink1Description: Datasheet; ComponentLink1URL: \\canopus\EDA\Datasheets\Discrete Semiconductors\FDV301N.pdf; Package Reference: SOT-23
footprint SOT23 (SOT23, 3-Leads, Body 2.9x1.3mm, Pitch 0.95mm, Lead Span 2.3mm - Reverse Pinning, IPC Low Density); pin to pad 2>3 3>2
3D model TO-251AA (PCB3D Model)
simulation model FDV301N (FDV301N ELECTRICAL MODEL (SOT-23 N-Ch DMOS))
pins: 1 D, 2 G, 3 S

## Q-FDV303N
designator Q?, comment Part Number: FDV303N  (hidden comment: FDV303N, N Channel MOSFET)
N channel MOSFET,  25V, SOT-23-3; Manufacturer: Fairchild Semiconductor; Type: N-MOSFET; Current (continous drain): 680mA; Power (Max): 350mW; Rds On (Maximum): 450m ohm @ 500mA, 4.5V; PackageDescription: SOT23, 3-Leads, Body 2.9x1.3mm, Pitch 0.95mm, Lead Span 2.3mm - Reverse Pinning, IPC Low Density; Drain-Source Voltage: 25V; Supplier 1: Mouser; Supplier Part Number 1: 512-FDV303N; Supplier 2: Digi-Key; Supplier Part Number 2: FDV303NCT-ND; Supplier 3: Newark; Supplier Part Number 3: 58K8857; ComponentLink1Description: Datasheet; ComponentLink1URL: \\canopus\EDA\Datasheets\Discrete Semiconductors\FDV303N.pdf; Package Reference: SOT-23
footprint SOT23 (SOT23, 3-Leads, Body 2.9x1.3mm, Pitch 0.95mm, Lead Span 2.3mm - Reverse Pinning, IPC Low Density); pin to pad 2>3 3>2
3D model TO-251AA (PCB3D Model)
simulation model FDV303N (FDV303N ELECTRICAL MODEL (SOT-23 N-Ch DMOS))
pins: 1 D, 2 G, 3 S

## Q-IRFU024N
designator Q?, comment Part Number: IRFU024NPBF  (hidden comment: IRFU9024NPBF, N Channel Power MOSFET)
N channel Power MOSFET,  55V, IPAK; Manufacturer: International Rectifier; Type: N-MOSFET; Current (continous drain): 11A; Power (Max): 45W; Rds On (Maximum): 75m ohm @ 10A, 10V; PackageDescription: TO-251AA, 3-Leads, Body 6.54x2.285mm, Pitch 2.29mm, IPAK; Drain-Source Voltage: 55V; Supplier 1: Newark; Supplier 2: Digi-Key; Supplier Part Number 1: 63J7043; Supplier Part Number 2: IRFU024NPBF-ND; ComponentLink1Description: Datasheet; ComponentLink1URL: \\canopus\EDA\Datasheets\Discrete Semiconductors\; Package Reference: TO251-AA
footprint TO251-3 (TO-251AA, 3-Leads, Body 6.54x2.285mm, Pitch 2.29mm, IPAK); pin to pad 1>2 2>1
3D model TO-251AA (PCB3D Model)
simulation model IRFRU024N (N channel power HEXFET)
pins: 1 D, 2 G, 3 S

## Q-IRFU9024
designator Q?, comment Part Number: IRFU9024NPBF  (hidden comment: IRFU9024NPBF, P Channel Power MOSFET)
P channel Power MOSFET,  -60V, IPAK; Manufacturer: International Rectifier; Type: P-MOSFET; Current (continous drain): 11A; Power (Max): 38W; Rds On (Maximum): 175m ohm @ 6.6A, 10V; Drain-Source Voltage: 55V; PackageDescription: TO-251AA, 3-Leads, Body 6.54x2.285mm, Pitch 2.29mm, IPAK; Supplier 1: Mouser; Supplier 2: Newark; Supplier 3: Digi-Key; Supplier Part Number 1: 942-IRFU9024NPBF; Supplier Part Number 2: 63J7099; Supplier Part Number 3: IRFU9024NPBF-ND; ComponentLink1Description: Datasheet; ComponentLink1URL: \\canopus\EDA\Datasheets\Discrete Semiconductors\; Package Reference: TO251-AA
footprint TO251-3 (TO-251AA, 3-Leads, Body 6.54x2.285mm, Pitch 2.29mm, IPAK); pin to pad 1>2 2>1
3D model TO-251AA (PCB3D Model)
simulation model IRFR9024N (IRFR9024N simulation model)
pins: 1 D, 2 G, 3 S

## Q-MMBF5485
designator Q?, comment Part Number: MMBF5485  (hidden comment: MMBF5485, N Channel JFET, RF amp)
RF JFET, N Channel, 25V, SOT-23; Manufacturer: Fairchild Semiconductor; Type: N-JFET; Power (Max): 225mW; PackageDescription: SOT23, 3-Leads, Body 2.9x1.3mm, Pitch 0.95mm, Lead Span 2.3mm - Reverse Pinning, IPC Low Density; Supplier 1: Mouser; Supplier 2: Digi-Key; Supplier 3: Arrow; Supplier Part Number 1: 512-MMBF5485; Supplier Part Number 2: MMBF5485CT-ND; Supplier Part Number 3: MMBF5485; ComponentLink1Description: Datasheet; ComponentLink1URL: \\canopus\EDA\Datasheets\Discrete Semiconductors\; Package Reference: SOT-23
footprint SOT23 (SOT23, 3-Leads, Body 2.9x1.3mm, Pitch 0.95mm, Lead Span 2.3mm - Reverse Pinning, IPC Low Density); pin to pad 1>3 2>1 3>2
3D model SOT23-3 (PCB3D Model)
pins: 1 D, 2 G, 3 S